# EAGLE library part L297 (library st-microelectronics)
STEPPER MOTOR CONTROLLER
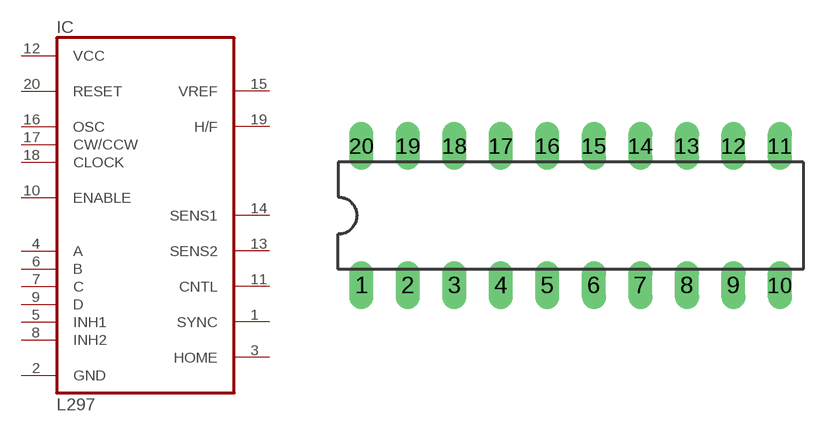
[diagram p0: symbol with the pads of DIL20; footprint DIL20]

Designator prefix IC

## L297  [DIL20]
1  SYNC  out
2  GND  pwr
3  HOME  out
4  A  out
5  INH1  out
6  B  out
7  C  out
8  INH2  out
9  D  out
10  ENABLE  in
11  CNTL  in
12  VCC  pwr
13  SENS2  out
14  SENS1  out
15  VREF  in
16  OSC
17  CW/CCW  in
18  CLOCK  in
19  H/F  in
20  RESET  in

## Footprint DIL20 (pad centres in mm)
Dual In Line Package
drill 0.813 long: 1 -11.43,-3.81; 2 -8.89,-3.81; 3 -6.35,-3.81; 4 -3.81,-3.81; 5 -1.27,-3.81; 6 1.27,-3.81; 7 3.81,-3.81; 8 6.35,-3.81; 9 8.89,-3.81; 10 11.43,-3.81; 11 11.43,3.81; 12 8.89,3.81; 13 6.35,3.81; 14 3.81,3.81; 15 1.27,3.81; 16 -1.27,3.81; 17 -3.81,3.81; 18 -6.35,3.81; 19 -8.89,3.81; 20 -11.43,3.81